# EAGLE library part SN74HCT573NSR (library SamacSys_Parts)
Octal Transparent D-Type Latches With 3-State Outputs Source: Datasheet <http://www.ti.com/lit/gpn/SN74HCT573>
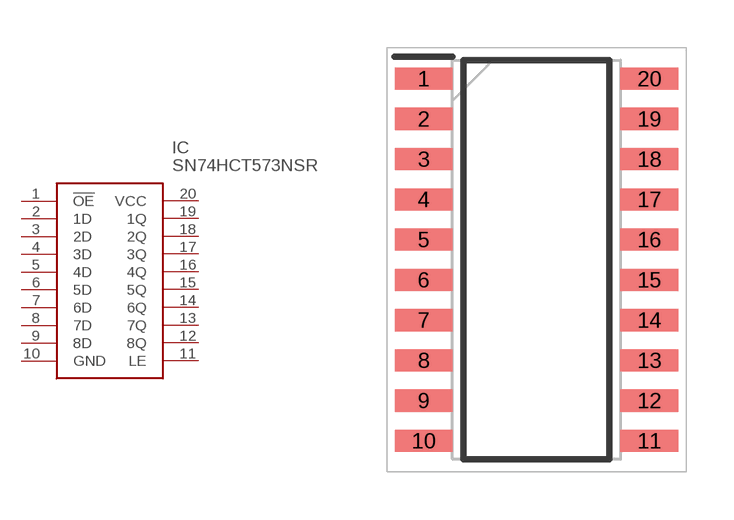
[diagram p63: symbol with the pads of SOIC127P780X200-20N; footprint SOIC127P780X200-20N]

Designator prefix IC

## SN74HCT573NSR (DESCRIPTION: Octal Transparent D-Type Latches With 3-State Outputs; HEIGHT: 2mm; MANUFACTURER_NAME: Texas Instruments; MANUFACTURER_PART_NUMBER: SN74HCT573NSR; MOUSER_PART_NUMBER: 595-SN74HCT573NSR; MOUSER_PRICE-STOCK: https://www.mouser.co.uk/ProductDetail/Texas-Instruments/SN74HCT573NSR?qs=CCO124VRWrnxIZe42IEv9w%3D%3D)  [SOIC127P780X200-20N]
1  !OE
2  1D
3  2D
4  3D
5  4D
6  5D
7  6D
8  7D
9  8D
10  GND
11  LE
12  8Q
13  7Q
14  6Q
15  5Q
16  4Q
17  3Q
18  2Q
19  1Q
20  VCC

## Footprint SOIC127P780X200-20N (pad centres in mm)
NS (R-PDSO-G20)
smd 1.825 x 0.7: 1 -3.562,5.715; 2 -3.562,4.445; 3 -3.562,3.175; 4 -3.562,1.905; 5 -3.562,0.635; 6 -3.562,-0.635; 7 -3.562,-1.905; 8 -3.562,-3.175; 9 -3.562,-4.445; 10 -3.562,-5.715; 11 3.562,-5.715; 12 3.562,-4.445; 13 3.562,-3.175; 14 3.562,-1.905; 15 3.562,-0.635; 16 3.562,0.635; 17 3.562,1.905; 18 3.562,3.175; 19 3.562,4.445; 20 3.562,5.715